# EAGLE library part WS2811_LED (library blinkiverse)
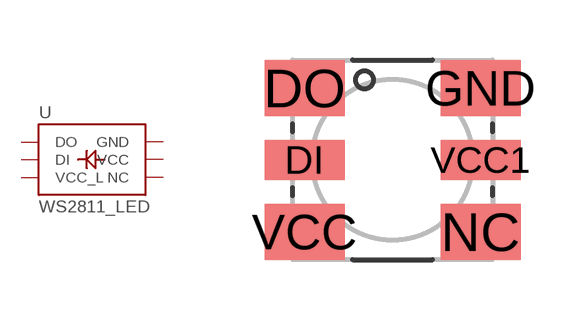
[diagram p5: symbol with the pads of WS2811_LED; footprint WS2811_LED]

Designator prefix -

## WS2811_LED  [WS2811_LED]
DI  DI
DO  DO
GND  GND
NC  NC
VCC  VCC
VCC1  VCC_L

## Footprint WS2811_LED (pad centres in mm)
smd 2 x 1: DI -2.2,0; VCC1 2.2,0
smd 2 x 1.4: DO -2.2,1.8; GND 2.2,1.8; NC 2.2,-1.8; VCC -2.2,-1.8